# Altium schematic symbol library LM2904PSR.SchLib: 2 symbols
Pins are listed as number, name and electrical type; pins without a type are passive.

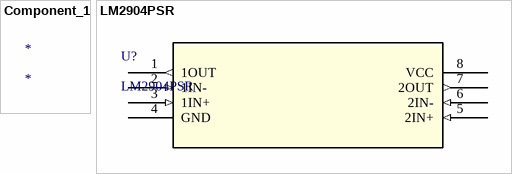
[diagram p0: symbols Component_1 to LM2904PSR]

## Component_1
designator *

## LM2904PSR
designator U?
No Description Available; Mfr_Name: Texas Instruments; Copyright: Copyright (C) 2022 Ultra Librarian. All rights reserved.; Manufacturer_Part_Number: LM2904PSR; Digi-Key_Part_Number_1: 296-29406-1-ND; Digi-Key_Part_Number_2: 296-29406-2-ND; Digi-Key_Part_Number_3: 296-29406-6-ND; RefDes: RefDes; Type: DEV
footprint PS8
pins: 1 1OUT (out), 2 1IN- (in), 3 1IN+ (in), 4 GND (power), 5 2IN+ (in), 6 2IN- (in), 7 2OUT (out), 8 VCC (power)